# Altium schematic symbol library 632723300011.SchLib: 1 symbol
Pins are listed as number, name and electrical type; pins without a type are passive.

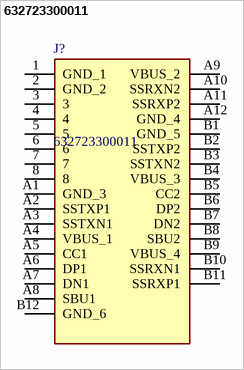
[diagram p0: symbol 632723300011]

## 632723300011
designator J?
USB Connectors WR-COM USB3.1 Type C SuperSpeed+ Rcpt; Manufacturer_Name: Wurth Elektronik; Geometry.Height: 2mm; Mouser Part Number: 710-632723300011; Mouser Price/Stock: https://www.mouser.co.uk/ProductDetail/Wurth-Elektronik/632723300011?qs=NK6InXoXhq4%252B5eM1PePLPg%3D%3D; Manufacturer_Part_Number: 632723300011; Datasheet Link: http://katalog.we-online.de/em/datasheet/632723x00011.pdf
footprint 632723300011
pins: 1 GND_1, 2 GND_2, 3, 4, 5, 6, 7, 8, A1 GND_3, A2 SSTXP1, A3 SSTXN1, A4 VBUS_1, A5 CC1, A6 DP1, A7 DN1, A8 SBU1, A9 VBUS_2, A10 SSRXN2, A11 SSRXP2, A12 GND_4, B1 GND_5, B2 SSTXP2, B3 SSTXN2, B4 VBUS_3, B5 CC2, B6 DP2, B7 DN2, B8 SBU2, B9 VBUS_4, B10 SSRXN1, B11 SSRXP1, B12 GND_6